# Altium integrated library EG1218.IntLib: 1 symbol
Pins are listed as number, name and electrical type; pins without a type are passive.

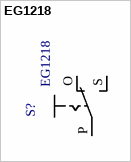
[diagram p0: symbol EG1218]

## EG1218
designator S?
/ Slide Switch SPDT Through Hole /; MF: E-Switch; Package: FakePackage u; Availability: Unavailable; SnapEDA_Link: https://www.snapeda.com/parts/EG1218/E-Switch/view-part/13895/?ref=snap; MP: EG1218; Price: None; Value: *
footprint *EG1218_EG1218(Primary)
pins: O, P, S